# EAGLE library part ADS1015 (library adcLib)
Ti ADS1015 12-bit ADC Ultra-Small, Low-Power, 12-Bit Analog-to-Digital Converter with Internal Reference The ADS1013, ADS1014, and ADS1015 are precision analog-to-digital converters (ADCs) with 12 bits of resolution offered in an ultra-small, leadless QFN-10 package or an MSOP-10 package. \ Source: http://focus.ti.com/docs/prod/folders/print/ads1015.html
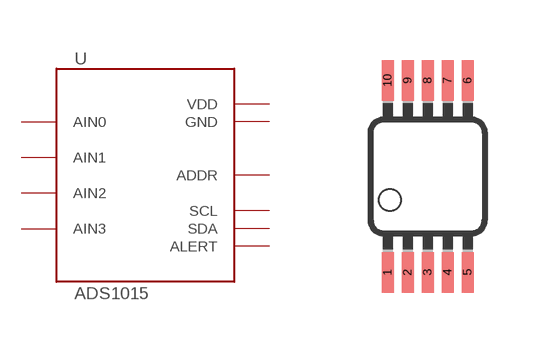
[diagram p3: symbol with the pads of MSOP10_0.5; footprint MSOP10_0.5]

Designator prefix -

## ADS1015IDGT  [MSOP10_0.5]
1  ADDR  in
2  ALERT  out
3  GND  sup
4  AIN0  in
5  AIN1  in
6  AIN2  in
7  AIN3  in
8  VDD  sup
9  SDA
10  SCL

## Footprint MSOP10_0.5 (pad centres in mm)
10 Lead MSOP Package NS Package Number MUB10A Source: http://cache.national.com/ds/LM/LM5030.pdf
smd 0.3 x 1.02: 1 -1,-2.4; 2 -0.5,-2.4; 3 0,-2.4; 4 0.5,-2.4; 5 1,-2.4; 6 1,2.4; 7 0.5,2.4; 8 0,2.4; 9 -0.5,2.4; 10 -1,2.4